# Altium schematic symbol library LED_BI.SchLib: 1 symbol
Pins are listed as number, name and electrical type; pins without a type are passive.

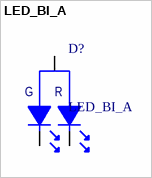
[diagram p0: symbol LED_BI_A]

## LED_BI_A
designator D?
pins: 1 C1, 2 C2, 3 A
text: G; R